# Altium schematic symbol library WE-VEA.SchLib: 2 symbols
Pins are listed as number, name and electrical type; pins without a type are passive.

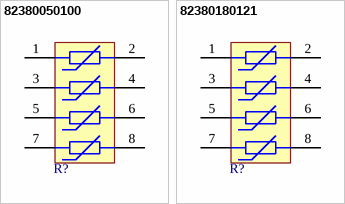
[diagram p0: symbols 82380050100 to 82380180121]

## 82380050100
designator R?, comment 5VDC, 10pF  (value not drawn)
WE-VEA ESD Suppressor Array, size 0508, 4 Channels, 5VDC, 10pF; Manufacturer Part Number: 82380050100; Manufacturer: Wurth Elektronik; Case/Size Code: 0508; Clamping Voltage: 50V; Insulation Resistance: 10MΩ; Leakage Current: 0.1µA; Number of Channels: 4; Operating Voltage (DC): 5V; ComponentLink1Description: Website Link; ComponentLink1URL: https://www.we-online.com/redexpert/article/82380050100?ad; ComponentLink2Description: Datasheet Link; ComponentLink2URL: https://www.we-online.com/redexpert/spec/82380050100?ad; Category: ESD Protection; Match Code: WE-VEA; Mount: Surface Mount; Operating Temperature Max: 85°C; Operating Temperature Min: -40°C; Packaging: Tape and Reel; Length: 1.85mm; Width: 1.05mm; Height: 0.65mm; Capacitance: 10pF
footprint WE-VEA_0508
pins: 1, 2, 3, 4, 5, 6, 7, 8

## 82380180121
designator R?, comment 18VDC, 120pF  (value not drawn)
WE-VEA ESD Suppressor Array, size 0612, 4 Channels, 18VDC, 120pF; Manufacturer Part Number: 82380180121; Manufacturer: Wurth Elektronik; Case/Size Code: 0612; Clamping Voltage: 50V; Insulation Resistance: 10MΩ; Leakage Current: 0.1µA; Number of Channels: 4; Operating Voltage (DC): 18V; ComponentLink1Description: Website Link; ComponentLink1URL: https://www.we-online.com/redexpert/article/82380180121?ad; ComponentLink2Description: Datasheet Link; ComponentLink2URL: https://www.we-online.com/redexpert/spec/82380180121?ad; Category: ESD Protection; Match Code: WE-VEA; Mount: Surface Mount; Operating Temperature Max: 85°C; Operating Temperature Min: -40°C; Packaging: Tape and Reel; Length: 3mm; Width: 1.4mm; Height: 0.75mm; Capacitance: 120pF
footprint WE-VEA_0612
pins: 1, 2, 3, 4, 5, 6, 7, 8